# Altium schematic symbol library 2009_Jonathan.SchLib: 20 symbols
Pins are listed as number, name and electrical type; pins without a type are passive.

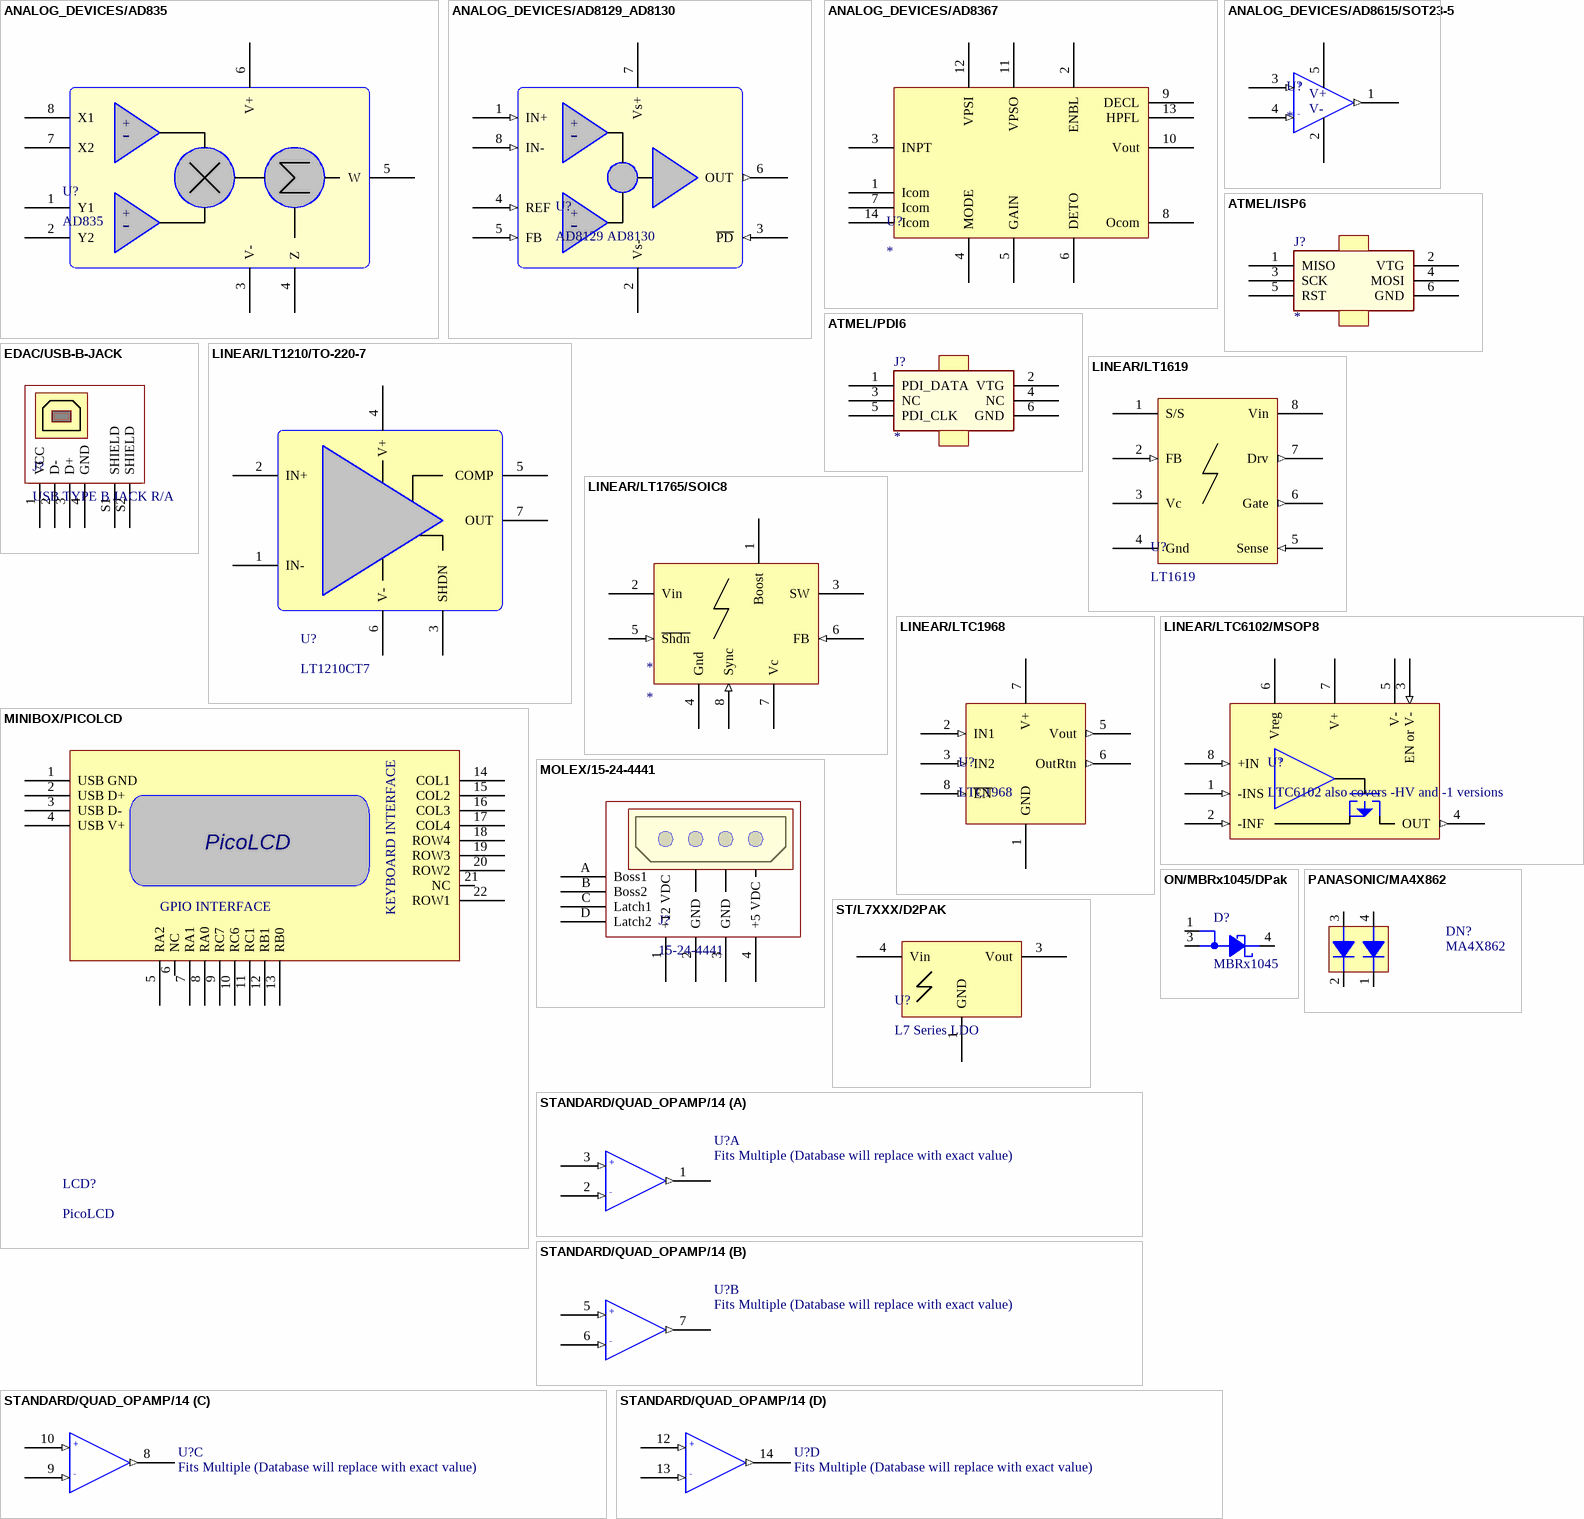
[diagram p0: symbols ANALOG_DEVICES/AD835 to STANDARD/QUAD_OPAMP/14]

## ANALOG_DEVICES/AD835
designator U?, comment AD835
250 MHz, Voltage Output, 4 Quadrant Multiplier
pins: 1 Y1, 2 Y2, 3 V-, 4 Z, 5 W, 6 V+, 7 X2, 8 X1
text: +; -

## ANALOG_DEVICES/AD8129_AD8130
designator U?, comment AD8129 AD8130
Low Cost 270MHz Differential Receiver Amplifier
pins: 1 IN+ (in), 2 Vs-, 3 ~{PD} (in), 4 REF (in), 5 FB (in), 6 OUT (out), 7 Vs+, 8 IN- (in)
text: +; -

## ANALOG_DEVICES/AD8367
designator U?
AD8367 500MHz, Linear-in-dB VGA with AGC Detector
pins: 1 Icom, 2 ENBL, 3 INPT, 4 MODE, 5 GAIN, 6 DETO, 7 Icom, 8 Ocom, 9 DECL, 10 Vout, 11 VPSO, 12 VPSI, 13 HPFL, 14 Icom

## ANALOG_DEVICES/AD8615/SOT23-5
designator U?
pins: 1 OUT (out), 2, 3 IN+ (in), 4 IN- (in), 5
text: +; V+; -; V-

## ATMEL/ISP6
designator J?
pins: 1 MISO, 2 VTG, 3 SCK, 4 MOSI, 5 RST, 6 GND
1 alternate drawing of the same symbol

## ATMEL/PDI6
designator J?
pins: 1 PDI_DATA, 2 VTG, 3 NC, 4 NC, 5 PDI_CLK, 6 GND

## EDAC/USB-B-JACK
designator J?, comment USB TYPE B JACK R/A
CONN USB JACK TYPE B HORIZON R/A
pins: 1 VCC, 2 D-, 3 D+, 4 GND, S1 SHIELD, S2 SHIELD

## LINEAR/LT1210/TO-220-7
designator U?, comment LT1210CT7
pins: 1 IN-, 2 IN+, 3 SHDN, 4 V+, 5 COMP, 6 V-, 7 OUT

## LINEAR/LT1619
designator U?, comment LT1619
pins: 1 S/S (power), 2 FB (in), 3 Vc, 4 Gnd (power), 5 Sense (in), 6 Gate (out), 7 Drv (out), 8 Vin (power)

## LINEAR/LT1765/SOIC8
designator *
pins: 1 Boost (power), 2 Vin (power), 3 SW (power), 4 Gnd (power), 5 ~{Shdn} (in), 6 FB (in), 7 Vc, 8 Sync (in)

## LINEAR/LTC1968
designator U?, comment LTC1968
Precision Wide Bandwidth RMS-to-DC
pins: 1 GND, 2 IN1 (in), 3 IN2 (in), 5 Vout (out), 6 OutRtn (out), 7 V+, 8 ~{EN} (in)

## LINEAR/LTC6102/MSOP8
designator U?, comment LTC6102 also covers -HV and -1 versions
See notes about special pin #8; MSOP8 package only
pins: 1 -INS (in), 2 -INF (in), 3 EN or V- (in) "on LTC6102 it's just V-, on LTC6102-1 it is an active-high enable signal (SEE DATASHEET!)", 4 OUT (out), 5 V-, 6 Vreg, 7 V+, 8 +IN (in)
text: +; -

## MINIBOX/PICOLCD
designator LCD?, comment PicoLCD
MiniBox's PicoLCD Module
pins: 1 USB GND, 2 USB D+, 3 USB D-, 4 USB V+, 5 RA2, 6 NC, 7 RA1, 8 RA0, 9 RC7, 10 RC6, 11 RC1, 12 RB1, 13 RB0, 14 COL1, 15 COL2, 16 COL3, 17 COL4, 18 ROW4, 19 ROW3, 20 ROW2, 21 NC "Not Connected on PicoLCD", 22 ROW1
text: GPIO INTERFACE; KEYBOARD INTERFACE

## MOLEX/15-24-4441
designator J?, comment 15-24-4441
5.08mm (.200") Pitch Disk Drive Power Connection System Header, Right Angle
pins: 1 +12 VDC, 2 GND, 3 GND, 4 +5 VDC, A Boss1, B Boss2, C Latch1, D Latch2

## ON/MBRx1045/DPak
designator D?, comment MBRx1045
MBRx1045 DPak and D2Pak packages (x = B or D in part number)
pins: 1 A1, 3 A2, 4 CATHODE

## PANASONIC/MA4X862
designator DN?, comment MA4X862
Panasonic Diode Network (2 Indep)
pins: 1, 2, 3, 4

## ST/L7XXX/D2PAK
designator U?, comment L7 Series LDO
L7 Series Linear Voltage Regulators in the D2Pak package
pins: 1 GND, 3 Vout, 4 Vin

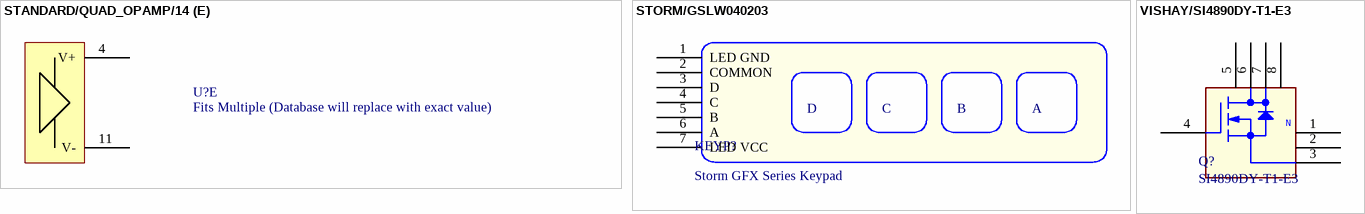
[diagram p1: symbols STANDARD/QUAD_OPAMP/14 to VISHAY/SI4890DY-T1-E3]

## STANDARD/QUAD_OPAMP/14
designator U?, comment Fits Multiple (Database will replace with exact value)
Fits most DIP14 and SOIC14 packaged Quad Operational Amplifiers; OriginalSymbolOrigin: (0,0); PositionInPackage: A,B; Number devices in Package: 2
part A pins: 1 OUT (out), 2 IN- (in), 3 IN+ (in)
part B pins: 5 IN+ (in), 6 IN- (in), 7 OUT (out)
part C pins: 8 OUT (out), 9 IN- (in), 10 IN+ (in)
part D pins: 12 IN+ (in), 13 IN- (in), 14 OUT (out)
part E pins: 4 V+, 11 V-
part A text: +; -
part B text: +; -
part C text: +; -
part D text: +; -

## STORM/GSLW040203
designator KEYP?, comment Storm GFX Series Keypad
pins: 1 LED GND, 2 COMMON, 3 D, 4 C, 5 B, 6 A, 7 LED VCC

## VISHAY/SI4890DY-T1-E3
designator Q?, comment SI4890DY-T1-E3
NFET 30V 11A SOIC8
pins: 1 S1, 2 S2, 3 S3, 4 G, 5 D1, 6 D2, 7 D3, 8 D4
text: N